# EAGLE library part 555_TIMER (library CommonParts)
TIMER
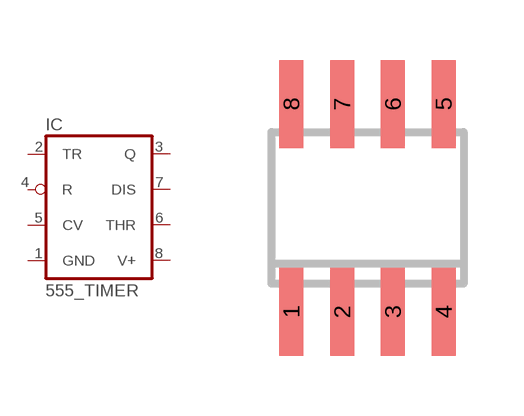
[diagram p0: symbol with the pads of SO08; footprint SO08]

Designator prefix IC

## 555_TIMERLMD, 555_TIMERNED, 555_TIMERSED, 555_TIMERUAD  [SO08]
1  GND  pwr
2  TR  in
3  Q  out
4  R  in
5  CV  in
6  THR  in
7  DIS  in
8  V+  pwr

## Footprint SO08 (pad centres in mm)
Small Outline Package 8 NS Package M08A
smd 0.6 x 2.2: 1 -1.905,-2.6; 2 -0.635,-2.6; 3 0.635,-2.6; 4 1.905,-2.6; 5 1.905,2.6; 6 0.635,2.6; 7 -0.635,2.6; 8 -1.905,2.6